# Altium footprint library Screw Terminal 2P.PcbLib: 1 footprints
Each footprint in its own frame and in the unit in brackets; x right, y up, seen from the top. Pads: shape width x height; smd on the part's side, far side on the other; paste and mask are expansions set on the pad; w line width, h text height; cw(c..) or ccw(c..) is an arc to the next point about the centre after c.
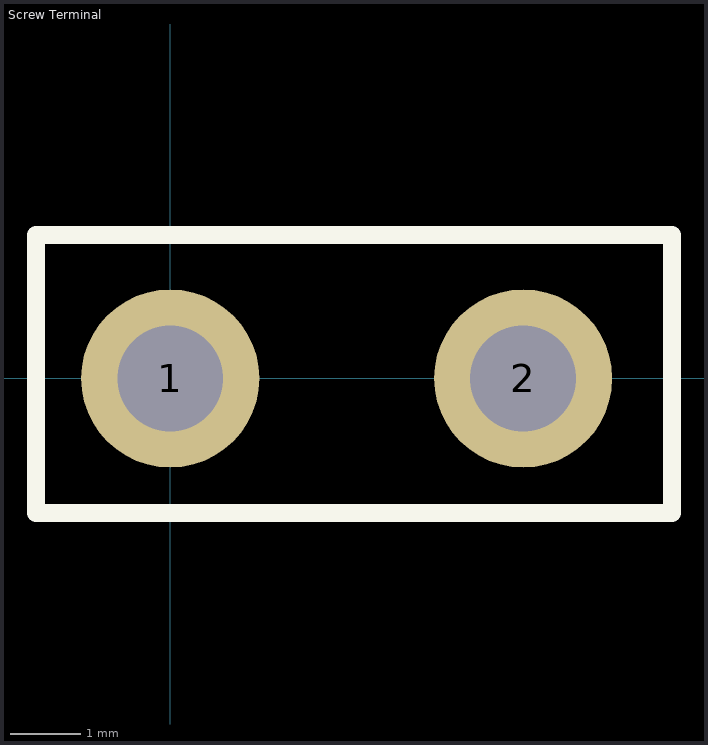
[diagram p0: the footprint, top view; thin cyan lines are the x and y axes]

## Screw Terminal [mm]
pads (2):
  round 2.524 hole 1.5: 1(0,0) 2(5,0)
Top Overlay:
  lines w0.254: -1.905,-1.905 7.112,-1.905 7.112,2.032 -1.905,2.032 -1.905,-1.905